# EAGLE library part ICHIGOJAM_U (library FaBo-Boards)
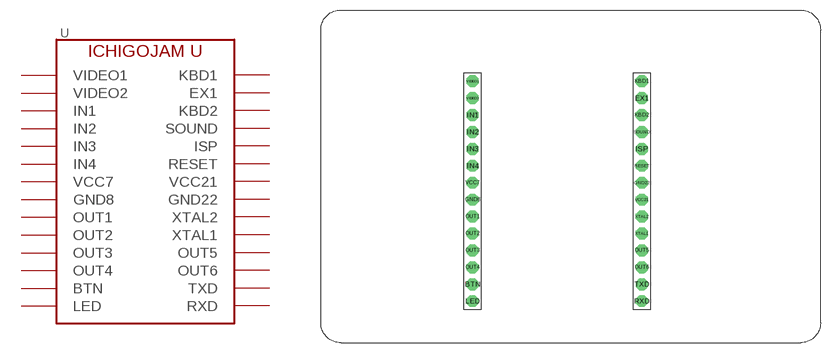
[diagram p4: symbol with the pads of ICHIGOJAM_U_NOLABEL; footprint ICHIGOJAM_U_NOLABEL]

Designator prefix U

## ICHIGOJAM_U  [ICHIGOJAM_U_NOLABEL]
BTN  BTN
EX1  EX1
GND8  GND8
GND22  GND22
IN1  IN1
IN2  IN2
IN3  IN3
IN4  IN4
ISP  ISP
KBD1  KBD1
KBD2  KBD2
LED  LED
OUT1  OUT1
OUT2  OUT2
OUT3  OUT3
OUT4  OUT4
OUT5  OUT5
OUT6  OUT6
RESET  RESET
RXD  RXD
SOUND  SOUND
TXD  TXD
VCC7  VCC7
VCC21  VCC21
VIDEO1  VIDEO1
VIDEO2  VIDEO2
XTAL1  XTAL1
XTAL2  XTAL2

## Footprint ICHIGOJAM_U_NOLABEL (pad centres in mm)
drill 1 pad 1.778 octagon: BTN -12.7,-13.97; EX1 12.7,13.97; GND8 -12.7,-1.27; GND22 12.7,1.27; IN1 -12.7,11.43; IN2 -12.7,8.89; IN3 -12.7,6.35; IN4 -12.7,3.81; ISP 12.7,6.35; KBD1 12.7,16.51; KBD2 12.7,11.43; LED -12.7,-16.51; OUT1 -12.7,-3.81; OUT2 -12.7,-6.35; OUT3 -12.7,-8.89; OUT4 -12.7,-11.43; OUT5 12.7,-8.89; OUT6 12.7,-11.43; RESET 12.7,3.81; RXD 12.7,-16.51; SOUND 12.7,8.89; TXD 12.7,-13.97; VCC7 -12.7,1.27; VCC21 12.7,-1.27; VIDEO1 -12.7,16.51; VIDEO2 -12.7,13.97; XTAL1 12.7,-6.35; XTAL2 12.7,-3.81